# EAGLE library part MS5607PACKAGED (library measurement_specialties)
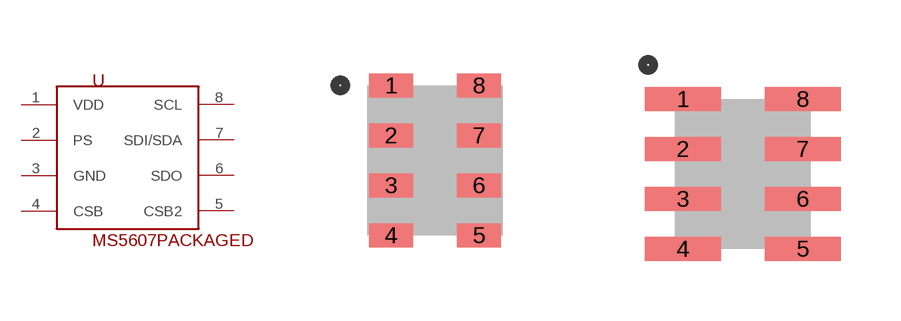
[diagram p0: symbol with the pads of MS5607-02BA03; footprints MS5607-02BA03, MS5607-02BA03_LONGPADS]

Designator prefix -

## MS5607PACKAGEDNORMAL  [MS5607-02BA03]
1  VDD  pwr
2  PS  in
3  GND  pwr
4  CSB  in
5  CSB2  in
6  SDO  out
7  SDI/SDA
8  SCL  in

## MS5607PACKAGEDLONGPADS  [MS5607-02BA03_LONGPADS]
Pads as for MS5607-02BA03

## Footprint MS5607-02BA03 (pad centres in mm)
smd 1.1 x 0.6: 1 0,0; 2 0,-1.25; 3 0,-2.5; 4 0,-3.75; 5 2.2,-3.75; 6 2.2,-2.5; 7 2.2,-1.25; 8 2.2,0

## Footprint MS5607-02BA03_LONGPADS (pad centres in mm)
smd 1.9 x 0.6: 1 -0.4,0; 2 -0.4,-1.25; 3 -0.4,-2.5; 4 -0.4,-3.75; 5 2.6,-3.75; 6 2.6,-2.5; 7 2.6,-1.25; 8 2.6,0